# Altium schematic symbol library WL-SMCW_0603.SchLib: 1 symbol
Pins are listed as number, name and electrical type; pins without a type are passive.

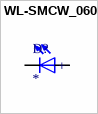
[diagram p0: symbol WL-SMCW_0603]

## WL-SMCW_0603
designator D?
0603, Blue Typ.(@20mA): 470nm, 145mcd, 3.2V, 140Â° InGaN; MF: Wurth Electronics; MP: 150060BS75000; SnapEDA_Link: https://www.snapeda.com/parts/150060BS75000/Wurth+Electronics/view-part/?ref=snap; Package: 0603 Wurth Electronics; Value: *; Check_prices: https://www.snapeda.com/parts/150060BS75000/Wurth+Electronics/view-part/?ref=eda
footprint WL-SMCW_0603
pins: 1 NEG, 2 POS
text: +